# Altium schematic symbol library Display.SchLib: 9 symbols
Pins are listed as number, name and electrical type; pins without a type are passive.

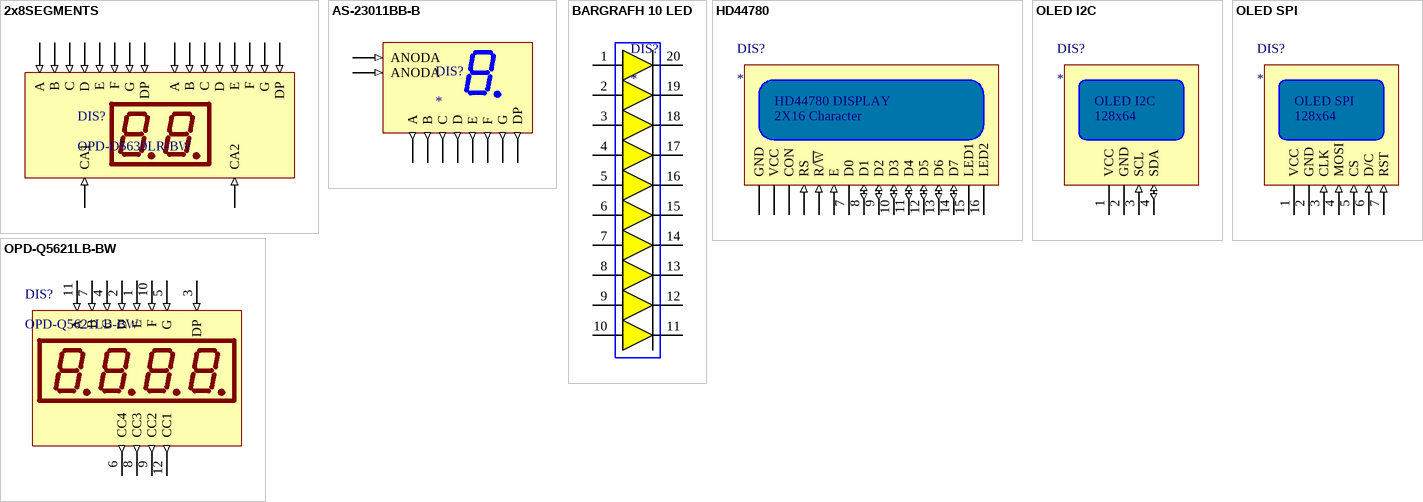
[diagram p0: symbols 2x8SEGMENTS to OPD-Q5621LB-BW]

## 2x8SEGMENTS
designator DIS?, comment OPD-D5630LR-BW
footprint OPD-D5631LR-BW
pins: 1 E (in), 2 D (in), 3 C (in), 4 DP (in), 5 E (in), 6 D (in), 7 G (in), 8 C (in), 9 DP (in), 10 B (in), 11 A (in), 12 F (in), 13 CA2 (in), 14 CA1 (in), 15 B (in), 16 A (in), 17 G (in), 18 F (in)

## AS-23011BB-B
designator DIS?
footprint AS-23011BB-B
pins: 1 ANODA (in), 2 E (out), 3 D (out), 4 C (out), 5 ANODA (in), 6 B (out), 7 A (out), 8 DP (out), 9 F (out), 10 G (out)

## BARGRAFH 10 LED
designator DIS?
footprint BARGRAFH_10LED
pins: 1 (power), 2 (power), 3 (power), 4 (power), 5 (power), 6 (power), 7 (power), 8 (power), 9 (power), 10 (power), 11 (power), 12 (power), 13 (power), 14 (power), 15 (power), 16 (power), 17 (power), 18 (power), 19 (power), 20 (power)

## HD44780
designator DIS?
footprint HD44780
pins: 1 GND (power), 2 VCC (power), 3 CON, 4 RS (in), 5 R/~{W} (in), 6 E (in), 7 D0, 8 D1 (io), 9 D2 (io), 10 D3 (io), 11 D4 (io), 12 D5 (io), 13 D6 (io), 14 D7 (io), 15 LED1, 16 LED2
text: HD44780 DISPLAY; 2X16 Character

## OLED I2C
designator DIS?
footprint OLED I2C
pins: 1 VCC (power), 2 GND (power), 3 SCL (in), 4 SDA (io)
text: 128x64

## OLED SPI
designator DIS?
footprint OLED SPI
pins: 1 VCC (power), 2 GND (power), 3 CLK (in), 4 MOSI (in), 5 CS (in), 6 D/C (in), 7 RST (in)
text: 128x64

## OPD-Q5621LB-BW
designator DIS?
Wyświetlacz: LED; 7-segmentowy; 14,2mm; niebieski; 80mcd; katoda
footprint OPD-Q5621LB-BW
pins: 1 E (in), 2 D (in), 3 DP (in), 4 C (in), 5 G (in), 6 CC4 (out), 7 B (in), 8 CC3 (out), 9 CC2 (out), 10 F (in), 11 A (in), 12 CC1 (out)

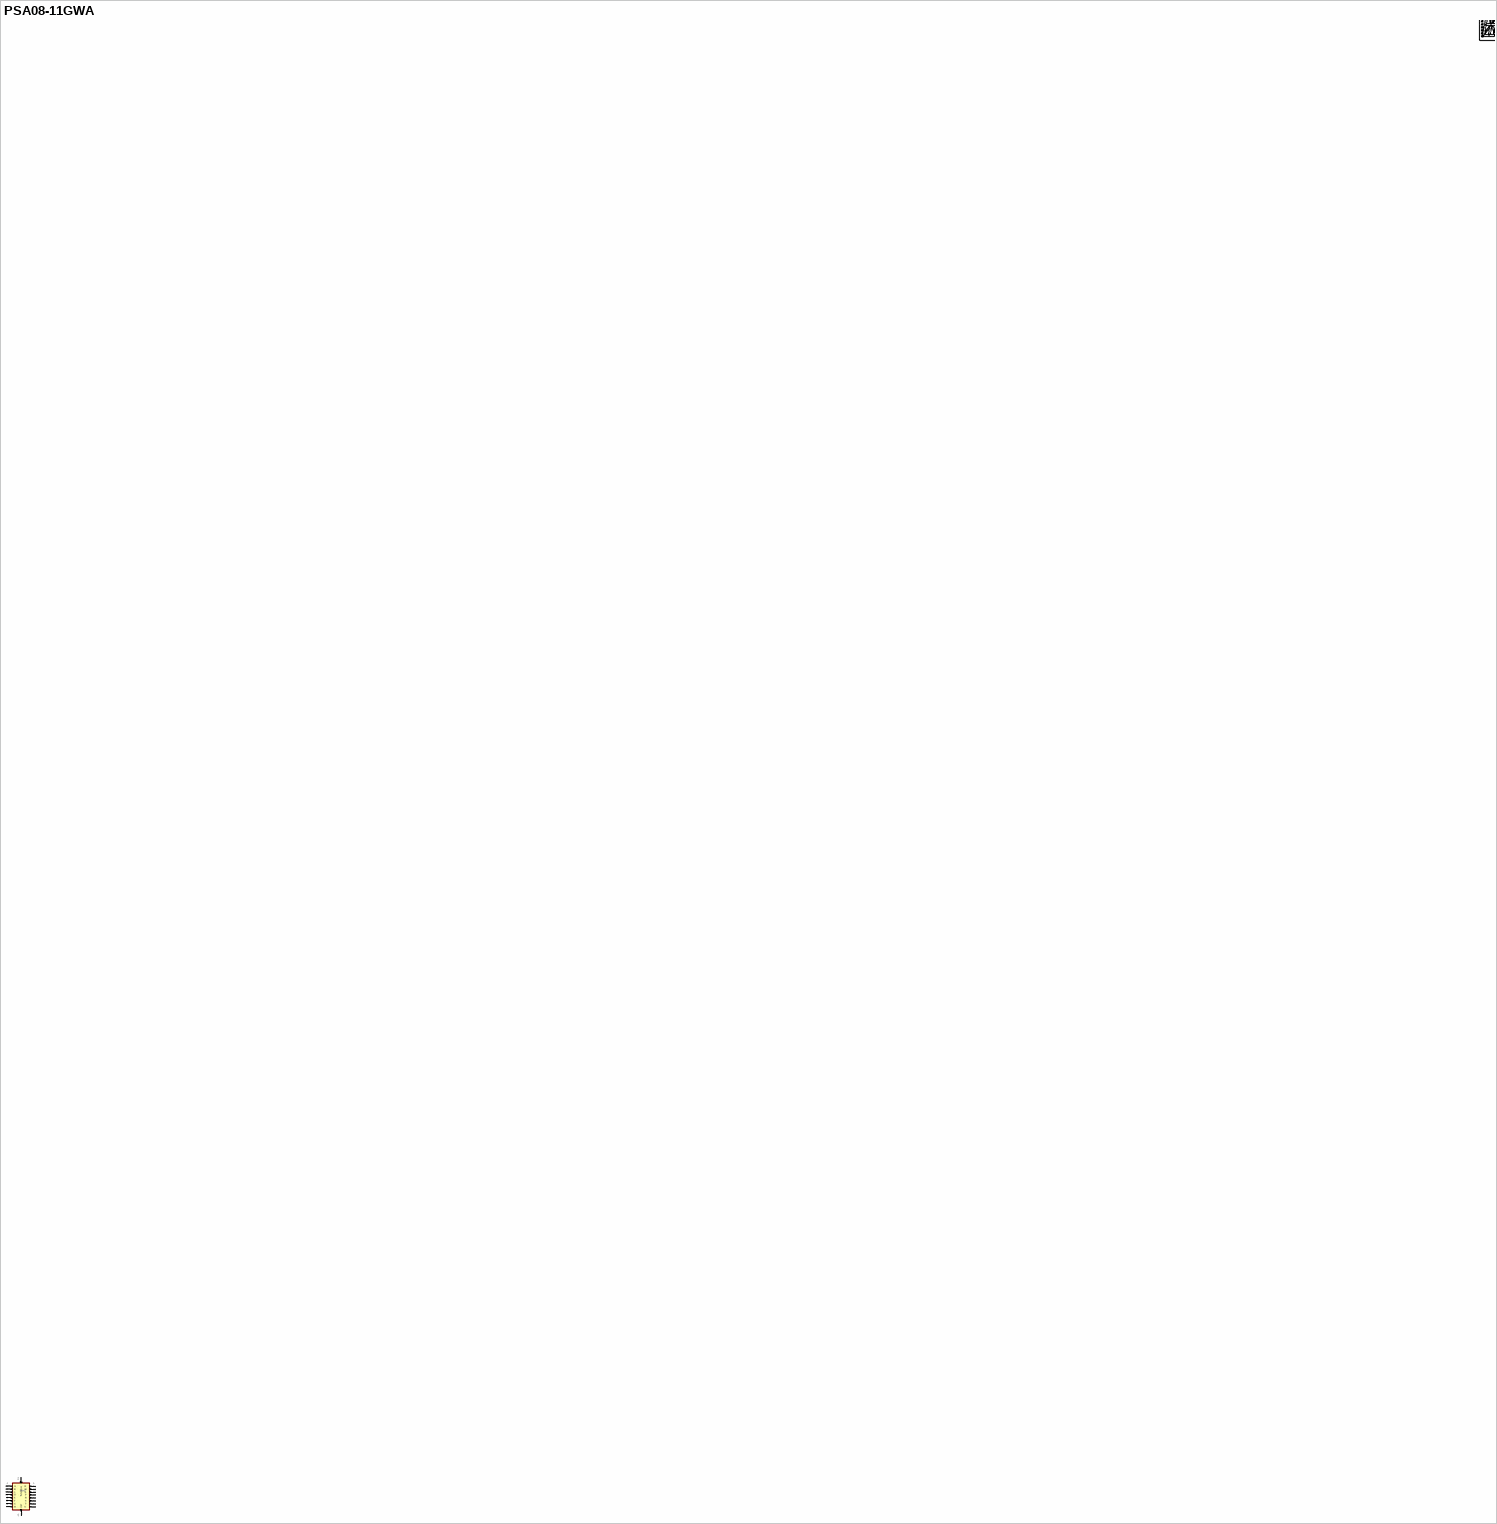
[diagram p1: symbol PSA08-11GWA]

## PSA08-11GWA
designator DIS?
footprint PSA08-11GWA
pins: 1 A (out), 2 M (out), 3 K (out), 4 H (out), 5 U (out), 6 S (out), 7 T (out), 8 G (out), 9 F (out), 10 E (out), 11 ANODA (in), 12 DP (out), 13 D (out), 14 R (out), 15 P (out), 16 C (out), 17 N (out), 18 B (out)

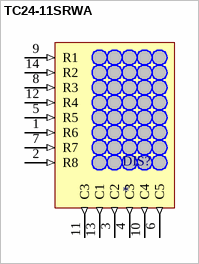
[diagram p2: symbol TC24-11SRWA]

## TC24-11SRWA
designator DIS?
footprint TC24-11SRWA
pins: 1 R6 (in), 2 R8 (in), 3 C2 (out), 4 C3 (out), 5 R5 (in), 6 C5 (out), 7 R7 (in), 8 R3 (in), 9 R1 (in), 10 C4 (out), 11 C3 (out), 12 R4 (in), 13 C1 (out), 14 R2 (in)